# Altium footprint library 36003160S.PcbLib: 1 footprints
Each footprint in its own frame and in the unit in brackets; x right, y up, seen from the top. Pads: shape width x height; smd on the part's side, far side on the other; paste and mask are expansions set on the pad; w line width, h text height; cw(c..) or ccw(c..) is an arc to the next point about the centre after c.

## 36003160S [mm]
3D body "Download_STP_WE-SHC-36003160S (rev1) (1).stp": height 6.2, standoff 4.2, extent -4.162,-9.496 12.798,7.464